# Altium schematic symbol library CMF075K0000JNEK.SchLib: 1 symbol
Pins are listed as number, name and electrical type; pins without a type are passive.

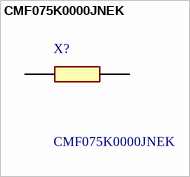
[diagram p0: symbol CMF075K0000JNEK]

## CMF075K0000JNEK
designator X?
VISHAY - CMF075K0000JNEK - METAL FILM RESISTOR, 5KOHM, 500mW, +/-5%; Mouser Part Number: *; Mouser Price/Stock: *; Manufacturer_Name: Vishay; Manufacturer_Part_Number: CMF075K0000JNEK; Datasheet Link: http://www.vishay.com/docs/31018/cmfind.pdf
footprint RESAD1653W69L737D229
pins: 1, 2